# Altium schematic symbol library RESISTOR.SchLib: 8 symbols
Pins are listed as number, name and electrical type; pins without a type are passive.

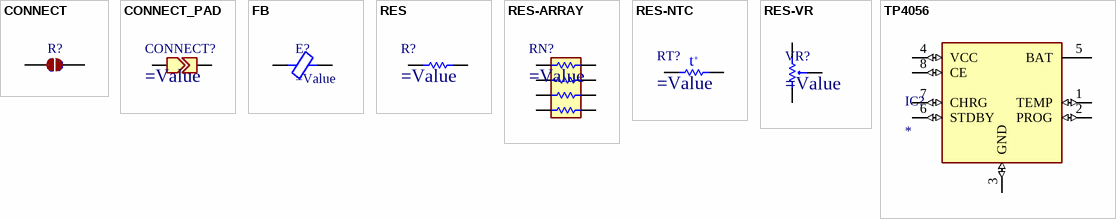
[diagram p0: symbols CONNECT to TP4056]

## CONNECT
designator R?
=Description
pins: 1, 2

## CONNECT_PAD
designator CONNECT?
=Description
pins: 1, 2

## FB
designator E?
=Description
pins: 1, 2

## RES
designator R?
=Description
pins: 1, 2

## RES-ARRAY
designator RN?
=Description
pins: 1, 2, 3, 4, 5, 6, 7, 8

## RES-NTC
designator RT?
=Description
pins: 1, 2
text: t; o

## RES-VR
designator VR?
=Description
pins: 1, 2, 3

## TP4056
designator IC?
footprint SOP8-TP4056
pins: 1 TEMP (io), 2 PROG (io), 3 GND (io), 4 VCC (io), 5 BAT, 6 STDBY (io), 7 CHRG (io), 8 CE (io)